# Altium schematic symbol library CD4081BEE4.SchLib: 1 symbol
Pins are listed as number, name and electrical type; pins without a type are passive.

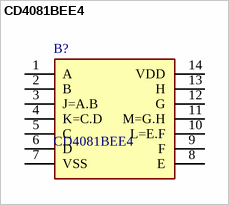
[diagram p0: symbol CD4081BEE4]

## CD4081BEE4
designator B?
AND Gate Quad 2-IN CMOS 14-Pin PDIP; Manufacturer_Name: Texas Instruments; Geometry.Height: 5.08mm; Mouser Part Number: 595-CD4081BEE4; Mouser Price/Stock: https://www.mouser.co.uk/ProductDetail/Texas-Instruments/CD4081BEE4?qs=HTr%252BoA4jRiloxIEWd2QErQ%3D%3D; Manufacturer_Part_Number: CD4081BEE4; Datasheet Link: https://datasheet.datasheetarchive.com/originals/distributors/Datasheets-SFU2/DSASFU100028830.pdf
footprint DIP794W53P254L1930H508Q14N
pins: 1 A, 2 B, 3 J=A.B, 4 K=C.D, 5 C, 6 D, 7 VSS, 8 E, 9 F, 10 L=E.F, 11 M=G.H, 12 G, 13 H, 14 VDD